# EAGLE library part AT86RF231 (library stan)
Atmel 2.4GHz transceiver for Zigbee
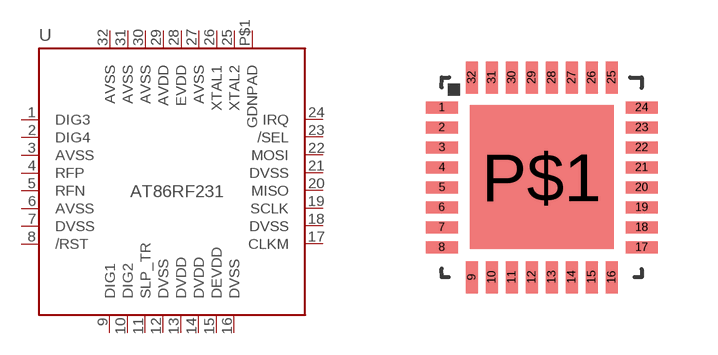
[diagram p4: symbol with the pads of QFN-32; footprint QFN-32]

Designator prefix -

## AT86RF231-ZU  [QFN-32]
1  DIG3
2  DIG4
3  AVSS
4  RFP
5  RFN
6  AVSS
7  DVSS
8  /RST
9  DIG1
10  DIG2
11  SLP_TR
12  DVSS
13  DVDD
14  DVDD
15  DEVDD
16  DVSS
17  CLKM
18  DVSS
19  SCLK
20  MISO
21  DVSS
22  MOSI
23  /SEL
24  IRQ
25  XTAL2
26  XTAL1
27  AVSS
28  EVDD
29  AVDD
30  AVSS
31  AVSS
32  AVSS
P$1  GDNPAD

## Footprint QFN-32 (pad centres in mm)
smd 0.8 x 0.3: 1 -2.5,1.75; 2 -2.5,1.25; 3 -2.5,0.75; 4 -2.5,0.25; 5 -2.5,-0.25; 6 -2.5,-0.75; 7 -2.5,-1.25; 8 -2.5,-1.75; 17 2.5,-1.75; 18 2.5,-1.25; 19 2.5,-0.75; 20 2.5,-0.25; 21 2.5,0.25; 22 2.5,0.75; 23 2.5,1.25; 24 2.5,1.75
smd 0.3 x 0.8: 9 -1.75,-2.5; 10 -1.25,-2.5; 11 -0.75,-2.5; 12 -0.25,-2.5; 13 0.25,-2.5; 14 0.75,-2.5; 15 1.25,-2.5; 16 1.75,-2.5; 25 1.75,2.5; 26 1.25,2.5; 27 0.75,2.5; 28 0.25,2.5; 29 -0.25,2.5; 30 -0.75,2.5; 31 -1.25,2.5; 32 -1.75,2.5
smd 3.6 x 3.6: P$1 0,0.001